# EAGLE library part BMP280 (library BMP280)
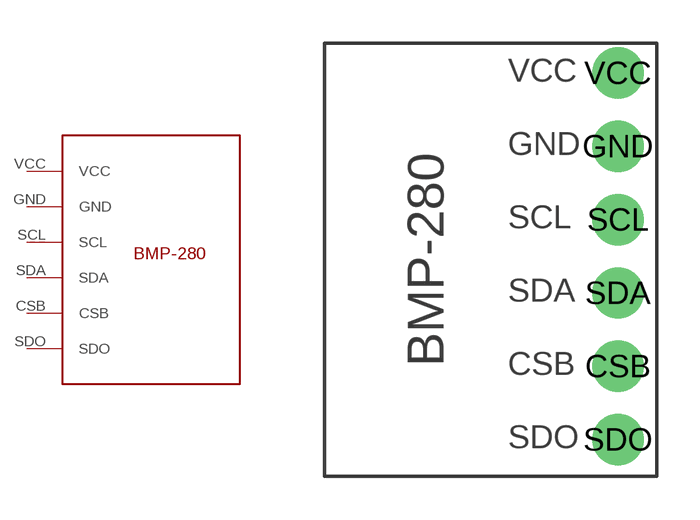
[diagram p0: symbol with the pads of BMP280; footprint BMP280]

Designator prefix -

## BMP280  [BMP280]
CSB  CSB
GND  GND
SCL  SCL
SDA  SDA
SDO  SDO
VCC  VCC

## Footprint BMP280 (pad centres in mm)
drill 1 pad 1.778: CSB 10.16,3.81; GND 10.16,11.43; SCL 10.16,8.89; SDA 10.16,6.35; SDO 10.16,1.27; VCC 10.16,13.97